# Altium schematic symbol library LM139-LM239-LM339.SchLib: 1 symbol
Pins are listed as number, name and electrical type; pins without a type are passive.

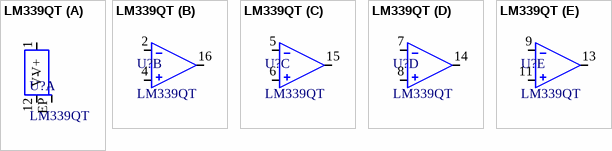
[diagram p0: symbol LM339QT]

## LM339QT
designator U?
Comparator General Purpose CMOS, DTL, ECL, MOS, Open-Collector, TTL 16-QFN (3x3); Manufacturer 1: STMicroelectronics; Type: LM339QT; Manufacturer Part Number 1: LM339QT
footprint QFN16_0.5_C
part A pins: 1 V+, 12 V-, EP
part B pins: 2 IN-1, 4 IN+1, 16 OUT1
part C pins: 5 IN-2, 6 IN+2, 15 OUT2
part D pins: 7 IN-3, 8 IN+3, 14 OUT3
part E pins: 9 IN-4, 11 IN+4, 13 OUT4